# EAGLE library part CD74HC123ME4 (library SamacSys_Parts)
Monostable Multivibrator Hi-Spd CMOS Dual Retrig with Reset Source: Datasheet <https://www.ti.com/general/docs/suppproductinfo.tsp?distId=10&gotoUrl=https://www.ti.com/lit/gpn/cd74hc123>
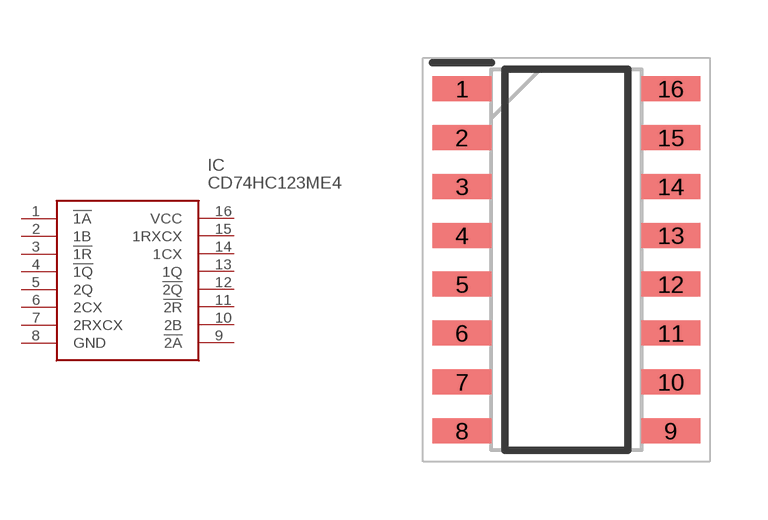
[diagram p0: symbol with the pads of SOIC127P600X175-16N; footprint SOIC127P600X175-16N]

Designator prefix IC

## CD74HC123ME4 (Description: Monostable Multivibrator Hi-Spd CMOS Dual Retrig with Reset; Height: 1.75mm; Manufacturer_Name: Texas Instruments; Manufacturer_Part_Number: CD74HC123ME4; Mouser_Part_Number: 595-CD74HC123ME4; Mouser_Price-Stock: https://www.mouser.com/Search/Refine.aspx?Keyword=595-CD74HC123ME4)  [SOIC127P600X175-16N]
1  !1A
2  1B
3  !1R
4  !1Q
5  2Q
6  2CX
7  2RXCX
8  GND
9  !2A
10  2B
11  !2R
12  !2Q
13  1Q
14  1CX
15  1RXCX
16  VCC

## Footprint SOIC127P600X175-16N (pad centres in mm)
D (R-PDSO-G16)
smd 1.525 x 0.65: 1 -2.712,4.445; 2 -2.712,3.175; 3 -2.712,1.905; 4 -2.712,0.635; 5 -2.712,-0.635; 6 -2.712,-1.905; 7 -2.712,-3.175; 8 -2.712,-4.445; 9 2.712,-4.445; 10 2.712,-3.175; 11 2.712,-1.905; 12 2.712,-0.635; 13 2.712,0.635; 14 2.712,1.905; 15 2.712,3.175; 16 2.712,4.445